# Altium schematic symbol library PSSI2021SAY.SchLib: 1 symbol
Pins are listed as number, name and electrical type; pins without a type are passive.

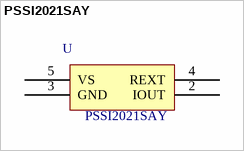
[diagram p0: symbol PSSI2021SAY]

## PSSI2021SAY
designator U  value PSSI2021SAY  (hidden comment: *)
Manufacturer: NXP; Manufacturer Code: PSSI2021SAY,115; Farnell Code: 1758034; Unit Price: 0,29 €
footprint SOT353
pins: 2 IOUT, 3 GND, 4 REXT, 5 VS